# Altium footprint library Antenna_Order.PcbLib: 33 footprints (part 1 of 3)
Each footprint in its own frame and in the unit in brackets; x right, y up, seen from the top. Pads: shape width x height; smd on the part's side, far side on the other; paste and mask are expansions set on the pad; w line width, h text height; cw(c..) or ccw(c..) is an arc to the next point about the centre after c.
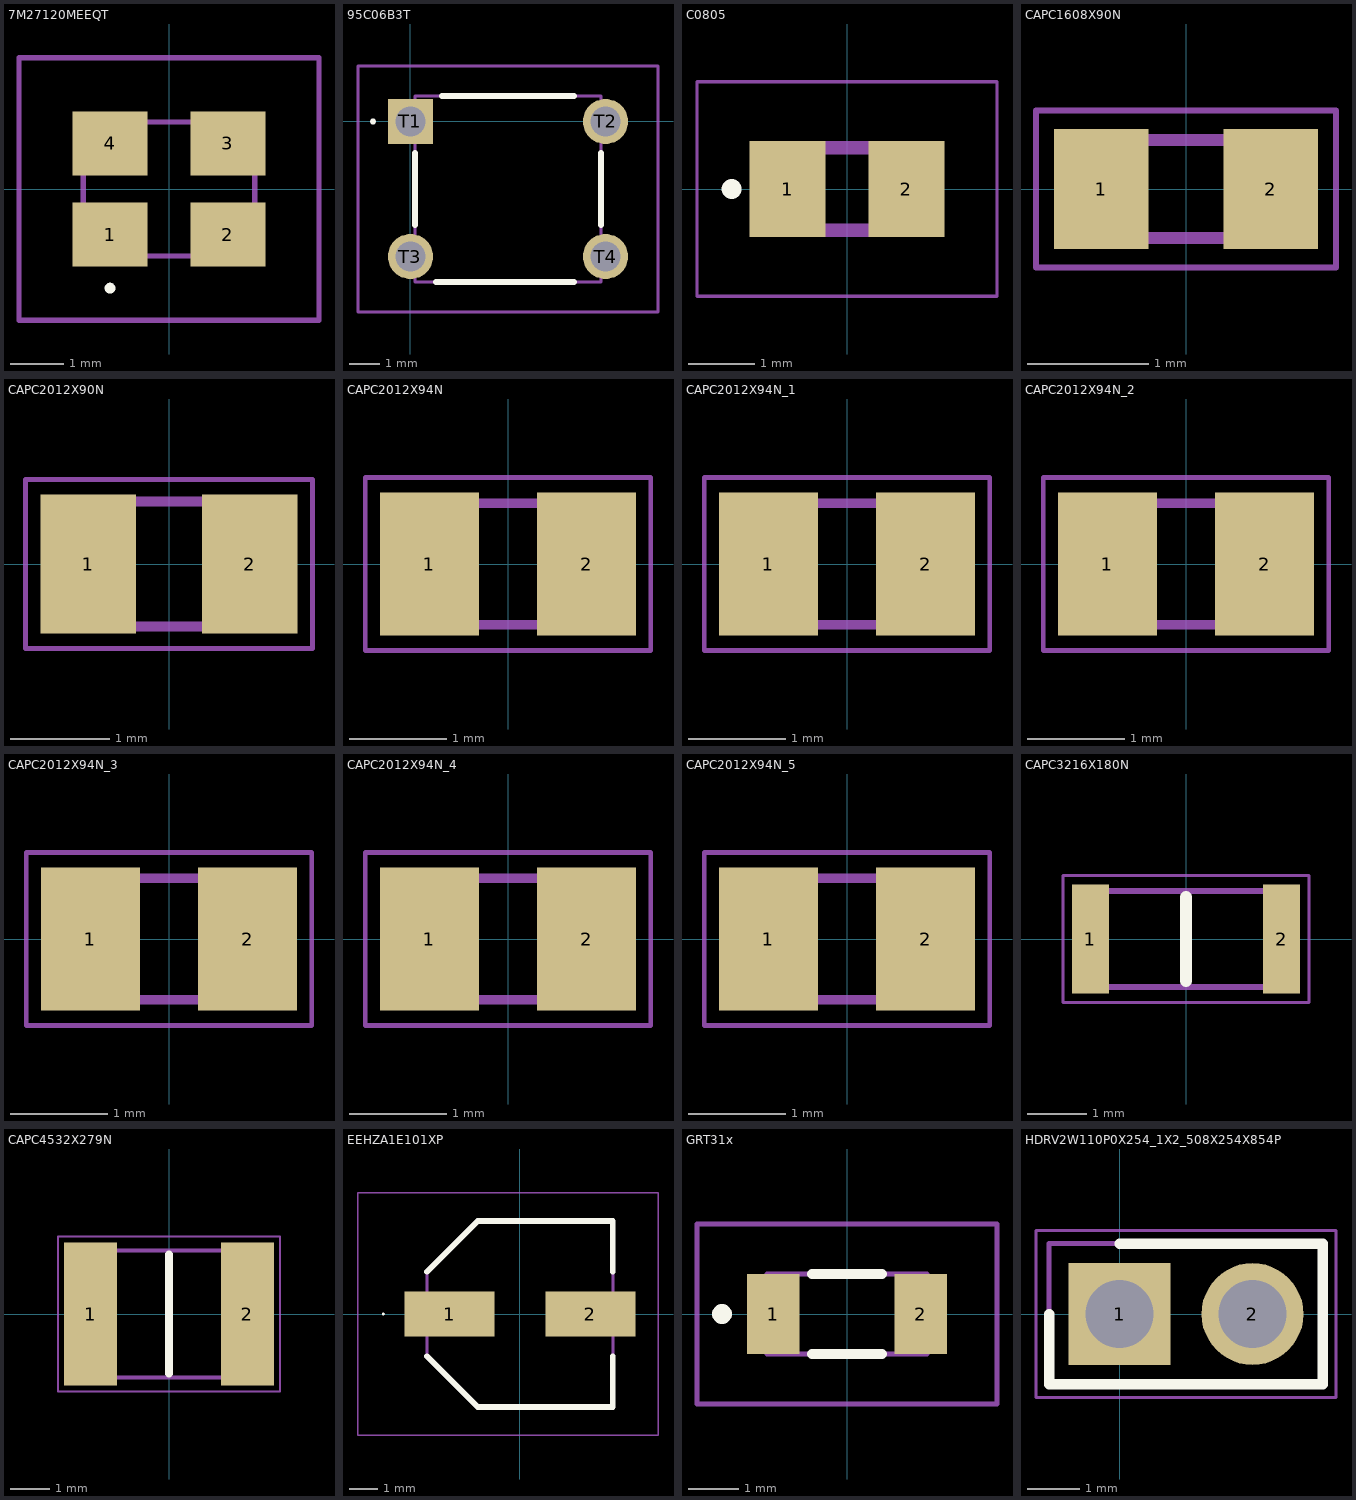
[diagram p0: the footprints below, top view; thin cyan lines are the x and y axes]

## 7M27120MEEQT [mm]
pads (4):
  rect 1.4x1.2 smd: 1(-1.1,-0.85) 2(1.1,-0.85) 3(1.1,0.85) 4(-1.1,0.85)
Top Overlay:
  lines w0.1: -1.1,-1.9 ccw(c-1.1,-1.85) -1.1,-1.8 ccw(c-1.1,-1.85) -1.1,-1.9
Mechanical 13:
  lines w0.1: -1.6,-1.25 1.6,-1.25 1.6,1.25 -1.6,1.25 -1.6,-1.25
Mechanical 15:
  lines w0.1: -2.8,-2.45 2.8,-2.45 2.8,2.45 -2.8,2.45 -2.8,-2.45
3D body "7M-27.120MEEQ-T.stp": height 0.9, standoff 0, extent -1.68,-1.33 1.68,1.33

## 95C06B3T [mm]
pads (4):
  rect 1.5x1.5 hole 1: T1(0,0)
  round 1.5 hole 1: T2(6.5,0) T3(0,-4.5) T4(6.5,-4.5)
Top Overlay:
  lines w0.1: -1.3,0 cw(c-1.25,0) -1.2,0 cw(c-1.25,0) -1.3,0
  lines w0.2: 0.15,-3.45 0.15,-1.05 ; 0.85,-5.35 5.45,-5.35 ; 1.05,0.85 5.45,0.85 ; 6.35,-3.45 6.35,-1.05
Mechanical 13:
  lines w0.1: 0.15,-5.35 6.35,-5.35 6.35,0.85 0.15,0.85 0.15,-5.35
Mechanical 15:
  lines w0.1: -1.75,-6.35 8.25,-6.35 8.25,1.85 -1.75,1.85 -1.75,-6.35
3D body "95C06B3T.stp": height 0, standoff 0, extent 0,0 0,0

## C0805 [mm]
pads (2):
  rect 1.15x1.45 smd: 1(-0.9,0) 2(0.9,0)
Top Overlay:
  circle w0.2: c-1.75,0 r0.05
Mechanical 13:
  lines w0.2: -1,-0.625 1,-0.625 1,0.625 -1,0.625 -1,-0.625
Mechanical 15:
  lines w0.05: -2.275,-1.625 2.275,-1.625 2.275,1.625 -2.275,1.625 -2.275,-1.625
3D body "C0805C150F5GACTU.stp": height 0.98, standoff 0, extent -1.15,-0.78 1.15,0.77

## CAPC1608X90N [mm]
pads (2):
  rect 0.78x0.99 smd: 1(-0.7,0) 2(0.7,0)
Mechanical 13:
  lines w0.1: -0.8,-0.405 0.8,-0.405 0.8,0.405 -0.8,0.405 -0.8,-0.405
Mechanical 15:
  lines w0.05: -1.24,-0.65 1.24,-0.65 1.24,0.65 -1.24,0.65 -1.24,-0.65
3D body "06033C474JAT2A.stp": height 0.91, standoff 0, extent -0.76,-0.38 0.76,0.38

## CAPC2012X90N [mm]
pads (2):
  rect 0.96x1.39 smd: 1(-0.81,0) 2(0.81,0)
Mechanical 13:
  lines w0.1: -1,-0.625 1,-0.625 1,0.625 -1,0.625 -1,-0.625
Mechanical 15:
  lines w0.05: -1.44,-0.85 1.44,-0.85 1.44,0.85 -1.44,0.85 -1.44,-0.85
3D body "VJ0805A102FXACW1BC.stp": height 0.9, standoff 0, extent -1,-0.625 1,0.625

## CAPC2012X94N [mm]
pads (2):
  rect 1.02x1.47 smd: 1(-0.81,0) 2(0.81,0)
Mechanical 13:
  lines w0.1: -1.005,-0.625 -1.005,0.625 1.005,0.625 1.005,-0.625 -1.005,-0.625
Mechanical 15:
  lines w0.05: -1.47,-0.89 -1.47,0.89 1.47,0.89 1.47,-0.89 -1.47,-0.89
3D body "08055A121FAT2A.stp": height 0.94, standoff 0, extent -1.005,-0.625 1.005,0.625

## CAPC2012X94N_1 [mm]
pads (2):
  rect 1.02x1.47 smd: 1(-0.81,0) 2(0.81,0)
Mechanical 13:
  lines w0.1: -1.005,-0.625 1.005,-0.625 1.005,0.625 -1.005,0.625 -1.005,-0.625
Mechanical 15:
  lines w0.05: -1.47,-0.89 1.47,-0.89 1.47,0.89 -1.47,0.89 -1.47,-0.89
3D body "08055A820FAT2A.stp": height 0.94, standoff 0, extent -1.005,-0.625 1.005,0.625

## CAPC2012X94N_2 [mm]
pads (2):
  rect 1.02x1.47 smd: 1(-0.81,0) 2(0.81,0)
Mechanical 13:
  lines w0.1: -1.005,-0.625 -1.005,0.625 1.005,0.625 1.005,-0.625 -1.005,-0.625
Mechanical 15:
  lines w0.05: -1.47,-0.89 -1.47,0.89 1.47,0.89 1.47,-0.89 -1.47,-0.89
3D body "08055A180FAT2A.stp": height 0.94, standoff 0, extent -1.005,-0.625 1.005,0.625

## CAPC2012X94N_3 [mm]
pads (2):
  rect 1.02x1.47 smd: 1(-0.81,0) 2(0.81,0)
Mechanical 13:
  lines w0.1: -1.005,-0.625 -1.005,0.625 1.005,0.625 1.005,-0.625 -1.005,-0.625
Mechanical 15:
  lines w0.05: -1.47,-0.89 -1.47,0.89 1.47,0.89 1.47,-0.89 -1.47,-0.89
3D body "08055A221FAT2A.stp": height 0.94, standoff 0, extent -1.005,-0.625 1.005,0.625

## CAPC2012X94N_4 [mm]
pads (2):
  rect 1.02x1.47 smd: 1(-0.81,0) 2(0.81,0)
Mechanical 13:
  lines w0.1: -1.005,-0.625 -1.005,0.625 1.005,0.625 1.005,-0.625 -1.005,-0.625
Mechanical 15:
  lines w0.05: -1.47,-0.89 -1.47,0.89 1.47,0.89 1.47,-0.89 -1.47,-0.89
3D body "08051A330FAT2A.stp": height 0.94, standoff 0, extent -1.005,-0.625 1.005,0.625

## CAPC2012X94N_5 [mm]
pads (2):
  rect 1.02x1.47 smd: 1(-0.81,0) 2(0.81,0)
Mechanical 13:
  lines w0.1: -1.005,-0.625 -1.005,0.625 1.005,0.625 1.005,-0.625 -1.005,-0.625
Mechanical 15:
  lines w0.05: -1.47,-0.89 -1.47,0.89 1.47,0.89 1.47,-0.89 -1.47,-0.89
3D body "08055A121FAT2A.stp": height 0.94, standoff 0, extent -1.005,-0.625 1.005,0.625

## CAPC3216X180N [mm]
pads (2):
  rect 0.62x1.82 smd: 1(-1.6,0) 2(1.6,0)
Top Overlay:
  lines w0.2: 0,-0.7 0,0.7
Mechanical 13:
  lines w0.1: -1.6,-0.8 -1.6,0.8 1.6,0.8 1.6,-0.8 -1.6,-0.8
Mechanical 15:
  lines w0.05: -2.06,-1.06 -2.06,1.06 2.06,1.06 2.06,-1.06 -2.06,-1.06
3D body "C3216X5R1H685K160AB.stp": height 1.6, standoff 0, extent -1.65,-0.8 1.55,0.8

## CAPC4532X279N [mm]
pads (2):
  rect 1.34x3.61 smd: 1(-1.98,0) 2(1.98,0)
Top Overlay:
  lines w0.2: 0,-1.5 0,1.5
Mechanical 13:
  lines w0.1: -2.25,-1.6 -2.25,1.6 2.25,1.6 2.25,-1.6 -2.25,-1.6
Mechanical 15:
  lines w0.05: -2.8,-1.96 -2.8,1.96 2.8,1.96 2.8,-1.96 -2.8,-1.96
3D body "18125C475JAT2A.stp": height 2.79, standoff 0, extent -2.25,-1.6 2.25,1.6

## EEHZA1E101XP [mm]
pads (2):
  rect 3.2x1.6 smd: 1(-2.5,0) 2(2.5,0)
Top Overlay:
  lines w0.05: -4.875,0 cw(c-4.85,0) -4.825,0 cw(c-4.85,0) -4.875,0
  lines w0.2: -3.3,-1.5 -1.5,-3.3 3.3,-3.3 3.3,-1.5 ; -3.3,1.5 -1.5,3.3 3.3,3.3 3.3,1.5
Mechanical 13:
  lines w0.1: -3.3,1.5 -1.5,3.3 ; -3.3,1.5 -3.3,-1.5 -1.5,-3.3 3.3,-3.3 3.3,3.3 -1.5,3.3 ; -3.3,1.5 -1.5,3.3
Mechanical 15:
  lines w0.05: -5.75,-4.3 -5.75,4.3 4.9,4.3 4.9,-4.3 -5.75,-4.3
3D body "EEH-ZA1E101XP.stp": height 5.8, standoff 0, extent -3.68,-3.3 3.62,3.3

## GRT31x [mm]
pads (2):
  rect 1.05x1.6 smd: 1(-1.475,0) 2(1.475,0)
Top Overlay:
  lines w0.2: -0.7,-0.8 0.7,-0.8 ; -0.7,0.8 0.7,0.8 ; -2.5,-0.1 ccw(c-2.5,0) -2.5,0.1 ccw(c-2.5,0) -2.5,-0.1
Mechanical 13:
  lines w0.1: -1.6,-0.8 -1.6,0.8 1.6,0.8 1.6,-0.8 -1.6,-0.8
Mechanical 15:
  lines w0.1: -3,-1.8 -3,1.8 3,1.8 3,-1.8 -3,-1.8
3D body "GRT31C5C1H104FA02L.stp": height 1.35, standoff 0, extent -1.895,-0.8 1.895,0.8

## HDRV2W110P0X254_1X2_508X254X854P [mm]
pads (2):
  rect 1.95x1.95 hole 1.3: 1(0,0)
  round 1.95 hole 1.3: 2(2.54,0)
Top Overlay:
  lines w0.2: -1.345,0 -1.345,-1.345 3.885,-1.345 3.885,1.345 0,1.345
Mechanical 13:
  lines w0.1: -1.345,-1.345 3.885,-1.345 3.885,1.345 -1.345,1.345 -1.345,-1.345
Mechanical 15:
  lines w0.05: -1.595,-1.595 4.135,-1.595 4.135,1.595 -1.595,1.595 -1.595,-1.595
3D body "61300211121.stp": height 8.54, standoff -3.15, extent -1.27,-1.27 3.81,1.27